# Altium footprint library PCB1.PcbLib: 24 footprints (part 2 of 2)
Each footprint in its own frame and in the unit in brackets; x right, y up, seen from the top. Pads: shape width x height; smd on the part's side, far side on the other; paste and mask are expansions set on the pad; w line width, h text height; cw(c..) or ccw(c..) is an arc to the next point about the centre after c.
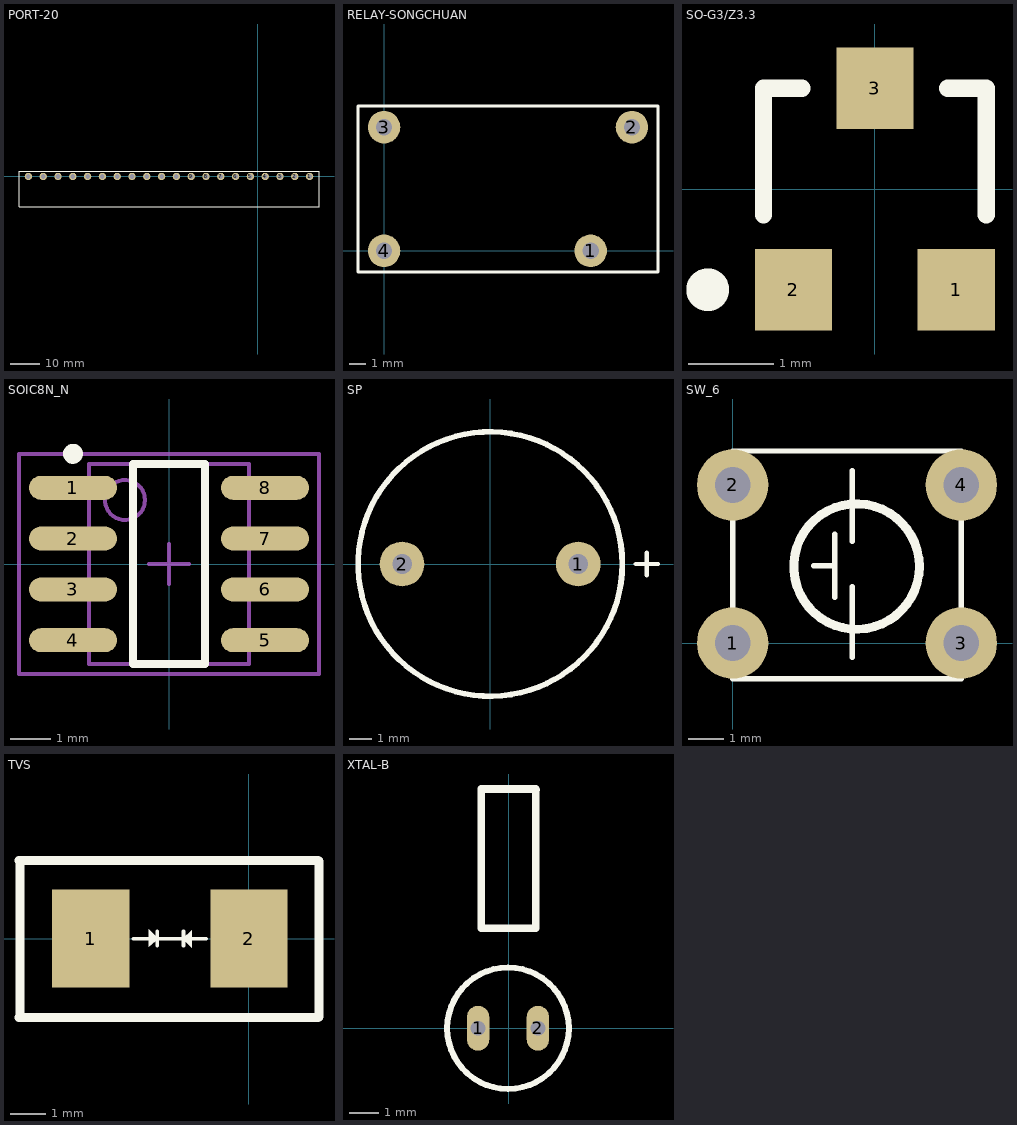
[diagram p1: the footprints below, top view; thin cyan lines are the x and y axes]

## PORT-20 [mm]
height 5.08
pads (20):
  round 2.54 hole 1.6: 1(17.78,0) 2(12.7,0) 3(7.62,0) 4(2.54,0) 5(-2.54,0) 6(-7.62,0) 7(-12.7,0) 8(-17.78,0) 9(-22.86,0) 10(-27.94,0) 11(-33.02,0) 12(-38.1,0) 13(-43.18,0) 14(-48.26,0) 15(-53.34,0) 16(-58.42,0) 17(-63.5,0) 18(-68.58,0) 19(-73.66,0) 20(-78.74,0)
Top Overlay:
  lines w0.2: 21.006,-10.4 -21.006,-10.4 -81.966,-10.4 -81.966,1.8 -21.006,1.8 21.006,1.8 21.006,-10.349

## RELAY-SONGCHUAN [mm]
pads (4):
  round 2 hole 1: 1(12.7,0) 2(15.24,7.6) 3(0,7.6) 4(0,0)
Top Overlay:
  lines w0.2: -1.6,-1.3 -1.6,0 -1.6,8.9 0,8.9 16.83,8.9 ; -1.595,-1.3 0,-1.3 16.836,-1.3 ; 16.84,-1.296 16.84,0 16.84,8.9

## SO-G3/Z3.3 [mm]
height 1.1
pads (3):
  rect 0.9x0.95 smd: 1(0.95,-1.175) 2(-0.95,-1.175) 3(0,1.175)
Top Overlay:
  circle w0.25: c-1.95,-1.175 r0.125
  lines w0.2: -1.3,-0.3 -1.3,1.175 -0.85,1.175 ; 0.85,1.175 1.3,1.175 1.3,-0.3

## SOIC8N_N [mm] "SOIC, 8-Leads, Body 4.9x3.9mm, Pitch 1.27mm, IPC Medium Density"
height 1.75
pads (8):
  oval 2.2x0.6 smd: 1(-2.4,1.905) 2(-2.4,0.635) 3(-2.4,-0.635) 4(-2.4,-1.905) 5(2.4,-1.905) 6(2.4,-0.635) 7(2.4,0.635) 8(2.4,1.905)
Top Overlay:
  circle w0.25: c-2.4,2.755 r0.125
  lines w0.2: -0.9,-2.5 -0.9,2.5 0.9,2.5 0.9,-2.5 -0.9,-2.5
Mechanical 13:
  circle w0.1: c-1.1,1.6 r0.5
  lines w0.1: -2,-2.5 -2,2.5 2,2.5 2,-2.5 -2,-2.5
Mechanical 15:
  lines w0.1: -0.5,0 0.5,0 ; 0,-0.5 0,0.5 ; -3.75,-2.75 -3.75,2.75 3.75,2.75 3.75,-2.75 -3.75,-2.75
3D body: height 1.75, standoff 0, extent -2,-2.5 2,2.5

## SP [mil]
height 43.31
pads (2):
  round 80 hole 35: 1(157.48,0) 2(-157.48,0)
Top Overlay:
  circle w10: c0,0 r236.22
  lines w7.87: 260,0 300,0 ; 280,-20 280,20

## SW_6 [mil]
pads (4):
  round 80 hole 40: 1(0,0) 2(0,177) 3(256,0) 4(256,177)
Top Overlay:
  circle w10: c138.74,85.67 r70.27
  lines w6: 90.55,86.61 114.17,86.61 ; 114.17,51.18 114.17,122.05 ; 133.86,-15.75 133.86,62.99 ; 133.86,114.17 133.86,192.91 ; 0,-40 256,-40 256,215 0,215 0,-40

## TVS [mil]
height 43.31
pads (2):
  rect 85x107.99 smd: 1(-174.02,0) 2(0,0)
Top Overlay:
  region: -63,-10 -73,0 -63,9
  region: -110,10 -100,0 -110,-9
  lines w3.94: -127,0 -47,0 ; -101,-8 -101,8 ; -72,-8 -72,8 -72,0
  lines w10: -251.94,70 -251.94,84.94 -253,86 76.06,86 ; -251.94,81 -251.94,-86 -252.94,-87 76.06,-87 77.06,-86 77.06,85 76.06,86 ; -246.94,86 76.06,86

## XTAL-B [mm]
height 1.1
pads (2):
  oval 0.75x1.5 hole 0.5: 1(-1.02,-0.001) 2(0.98,-0.001)
Top Overlay:
  circle w0.2: c-0.02,-0.001 r2.032
  lines w0.254: 0.93,7.974 0.905,7.999 ; 0.905,7.999 0.905,3.349 -0.92,3.349 -0.92,7.999 0.905,7.999